# Altium footprint library Side3PinConnector.PcbLib: 1 footprints
Each footprint in its own frame and in the unit in brackets; x right, y up, seen from the top. Pads: shape width x height; smd on the part's side, far side on the other; paste and mask are expansions set on the pad; w line width, h text height; cw(c..) or ccw(c..) is an arc to the next point about the centre after c.
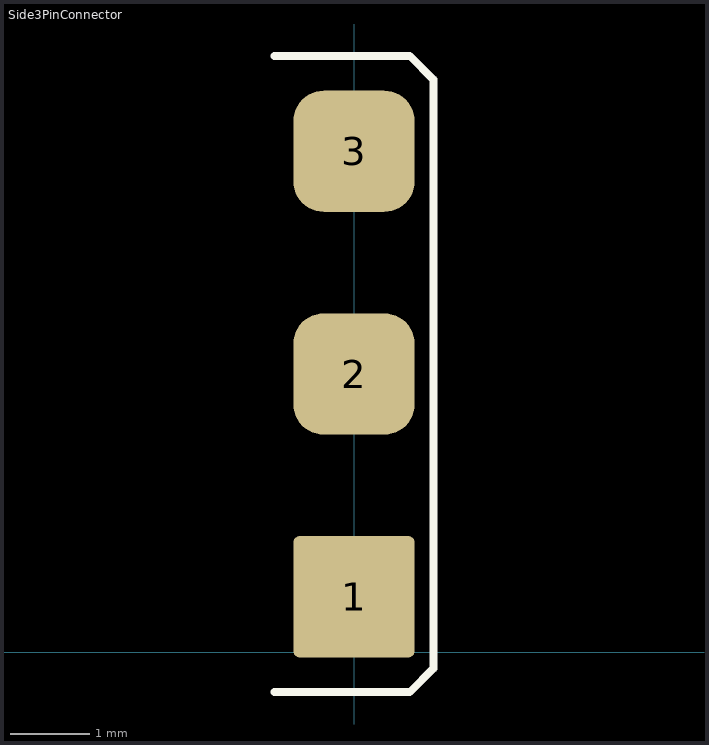
[diagram p0: the footprint, top view; thin cyan lines are the x and y axes]

## Side3PinConnector [mil]
height 78.74
pads (3):
  rrect10% 60x60 smd: 1(0,27.56)
  rrect50% 60x60 smd: 2(0,137.8) 3(0,248.03)
Top Overlay:
  lines w3.94: -39.37,-19.68 27.56,-19.68 39.37,-7.87 39.37,283.46 27.56,295.28 -39.37,295.28